# EAGLE library part CF_CON (library cf_con)
MI21-50PD-SF(71) "COMPACT FLASH CONNECTOR" -standard mounting, no ejector, no offset
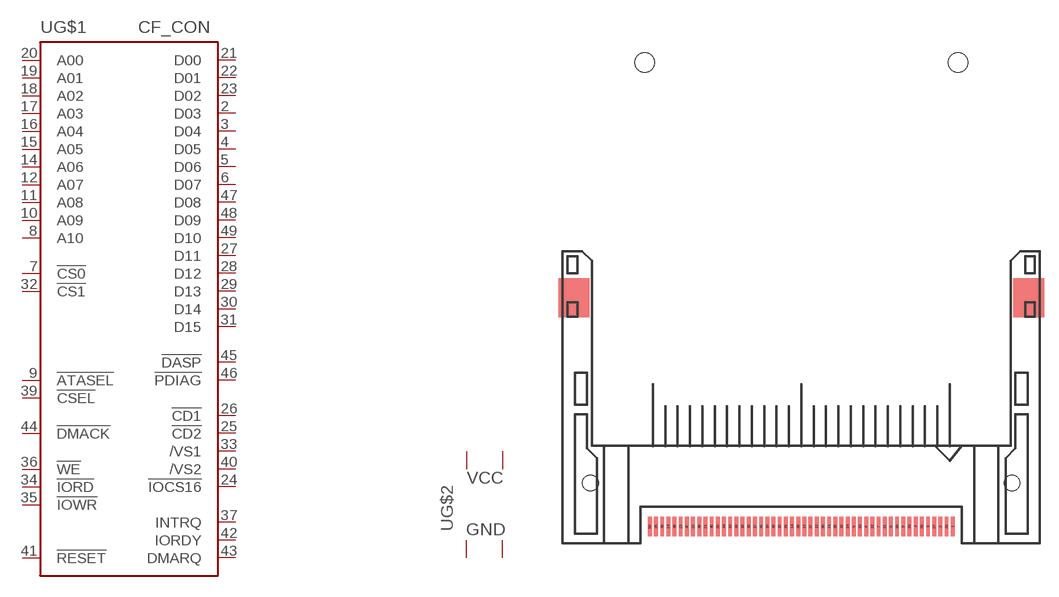
[diagram p0: symbol with the pads of CON; footprint CON]

Designator prefix U; gates G$1=CF_CON1 G$2=PWR

## CF_CONP  [CON]
1  G$2:GND1  pwr
2  G$1:D03
3  G$1:D04
4  G$1:D05
5  G$1:D06
6  G$1:D07
7  G$1:!CS0  in
8  G$1:A10  in
9  G$1:!ATASEL  in
10  G$1:A09  in
11  G$1:A08  in
12  G$1:A07  in
13  G$2:VCC1  pwr
14  G$1:A06  in
15  G$1:A05  in
16  G$1:A04  in
17  G$1:A03  in
18  G$1:A02  in
19  G$1:A01  in
20  G$1:A00  in
21  G$1:D00
22  G$1:D01
23  G$1:D02
24  G$1:!IOCS16  out
25  G$1:!CD2  out
26  G$1:!CD1  out
27  G$1:D11
28  G$1:D12
29  G$1:D13
30  G$1:D14
31  G$1:D15
32  G$1:!CS1  in
33  G$1:/VS1  out
34  G$1:!IORD  in
35  G$1:!IOWR  in
36  G$1:!WE  in
37  G$1:INTRQ  out
38  G$2:VCC2  pwr
39  G$1:!CSEL  in
40  G$1:/VS2  out
41  G$1:!RESET  in
42  G$1:IORDY  out
43  G$1:DMARQ  out
44  G$1:!DMACK  in
45  G$1:!DASP
46  G$1:!PDIAG
47  G$1:D08
48  G$1:D09
49  G$1:D10
50  G$2:GND2  pwr

## Footprint CON (pad centres in mm)
smd 0.4 x 2: 1 15.557,-11.16; 2 14.287,-11.16; 3 13.018,-11.16; 4 11.748,-11.16; 5 10.477,-11.16; 6 9.207,-11.16; 7 7.938,-11.16; 8 6.668,-11.16; 9 5.397,-11.16; 10 4.128,-11.16; 11 2.857,-11.16; 12 1.587,-11.16; 13 0.318,-11.16; 14 -0.953,-11.16; 15 -2.223,-11.16; 16 -3.493,-11.16; 17 -4.763,-11.16; 18 -6.032,-11.16; 19 -7.303,-11.16; 20 -8.572,-11.16; 21 -9.842,-11.16; 22 -11.113,-11.16; 23 -12.383,-11.16; 24 -13.652,-11.16; 25 -14.922,-11.16; 26 14.922,-11.16; 27 13.652,-11.16; 28 12.383,-11.16; 29 11.113,-11.16; 30 9.842,-11.16; 31 8.572,-11.16; 32 7.303,-11.16; 33 6.032,-11.16; 34 4.763,-11.16; 35 3.493,-11.16; 36 2.223,-11.16; 37 0.953,-11.16; 38 -0.318,-11.16; 39 -1.587,-11.16; 40 -2.857,-11.16; 41 -4.128,-11.16; 42 -5.397,-11.16; 43 -6.668,-11.16; 44 -7.938,-11.16; 45 -9.207,-11.16; 46 -10.477,-11.16; 47 -11.748,-11.16; 48 -13.018,-11.16; 49 -14.287,-11.16; 50 -15.557,-11.16
hole 1.6 at -21.65,-6.66
hole 1.6 at 21.65,-6.66
hole 2 at -16.1,36.5
hole 2 at 16.1,36.5